# EAGLE library part JTAG-6 (library 00ese323)
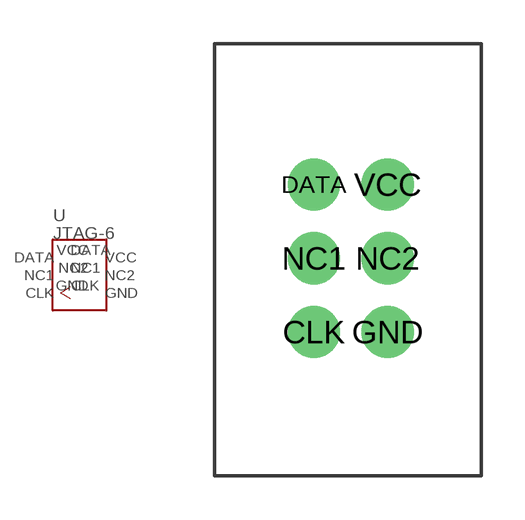
[diagram p5: symbol with the pads of JTAG6; footprint JTAG6]

Designator prefix -

## JTAG-6  [JTAG6]
CLK  CLK  in
DATA  DATA  in
GND  GND  pwr
NC1  NC1  nc
NC2  NC2  nc
VCC  VCC  pwr

## Footprint JTAG6 (pad centres in mm)
Leave appropriate spacing for jtag header ???
drill 1.2: CLK -1.27,-6.14; DATA -1.27,-1.06; GND 1.27,-6.14; NC1 -1.27,-3.6; NC2 1.27,-3.6; VCC 1.27,-1.06